# Altium footprint library alexsb.PCBLIB: 444 footprints (part 9 of 28)
Each footprint in its own frame and in the unit in brackets; x right, y up, seen from the top. Pads: shape width x height; smd on the part's side, far side on the other; paste and mask are expansions set on the pad; w line width, h text height; cw(c..) or ccw(c..) is an arc to the next point about the centre after c.
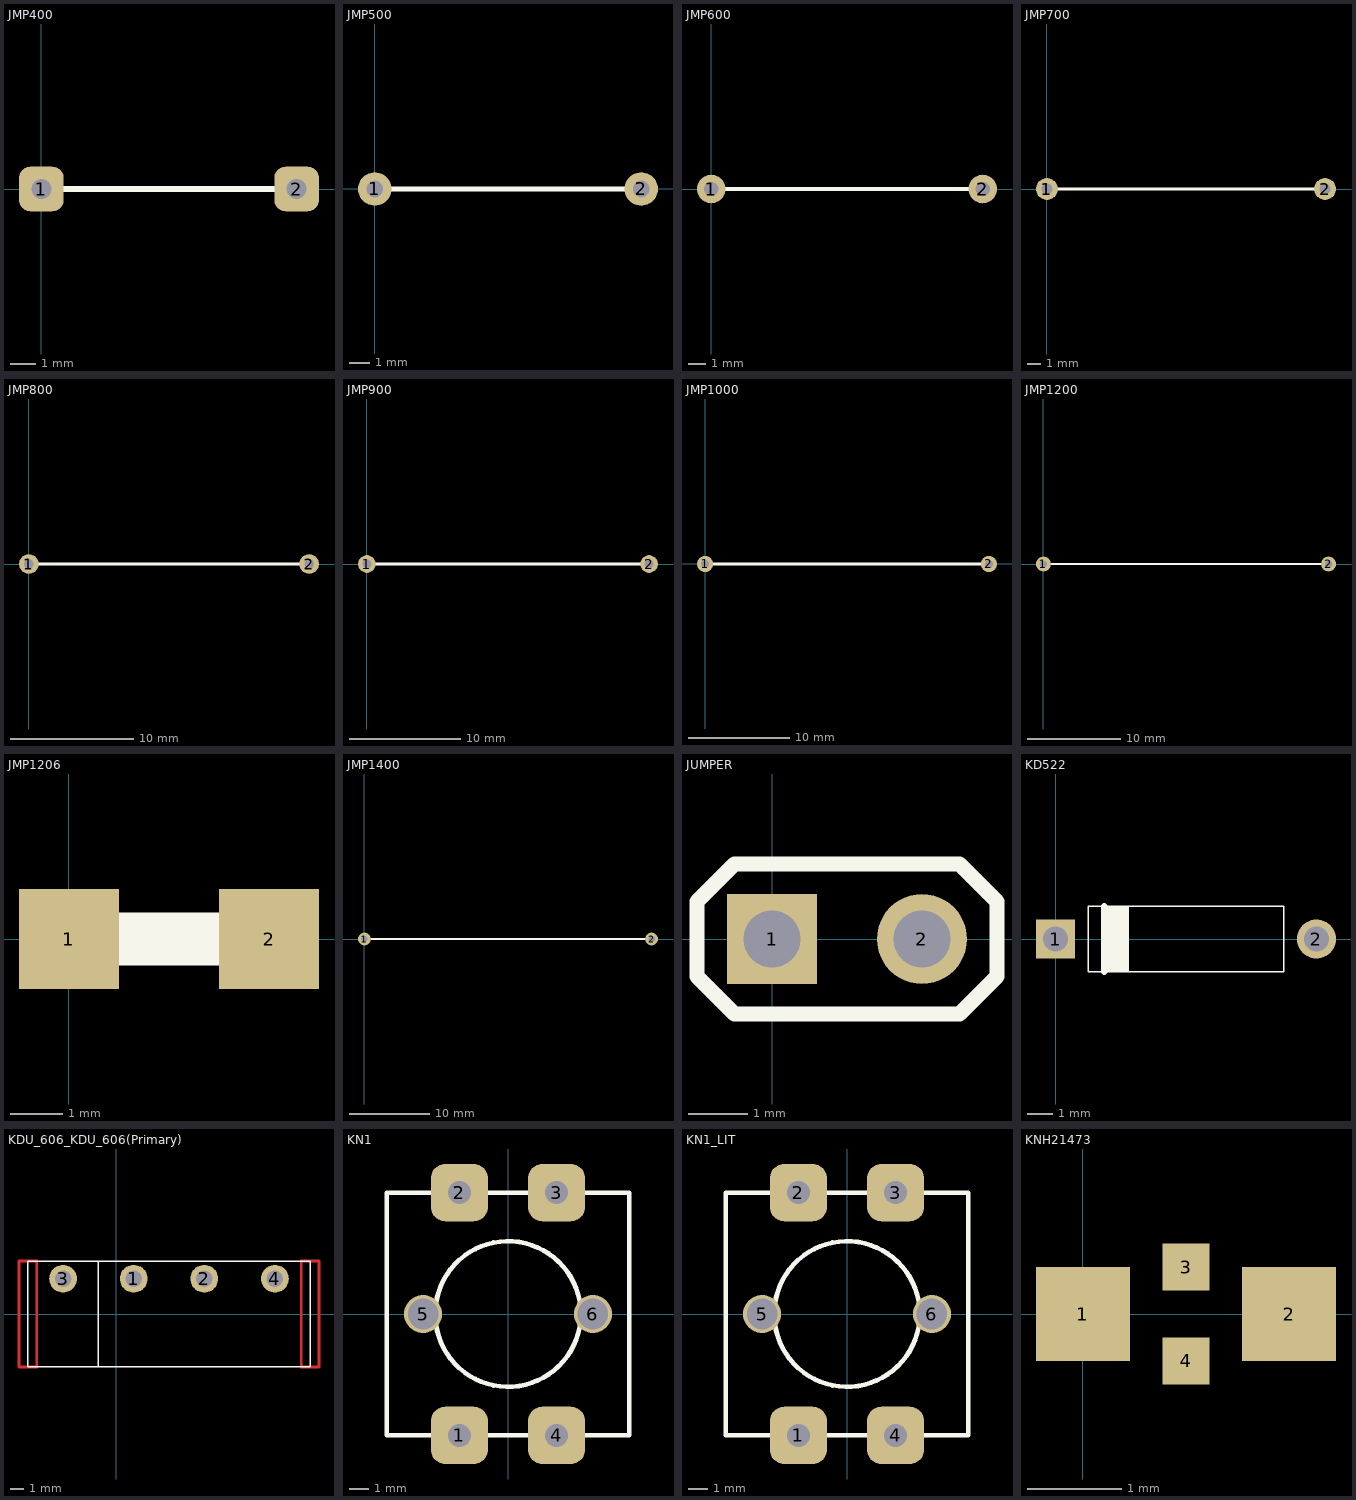
[diagram p8: the footprints below, top view; thin cyan lines are the x and y axes]

## JMP400 [mil]
pads (2):
  rrect50% 70x70 hole 31.5: 1(0,0) 2(400,0)
Top Overlay:
  lines w9.84: 0,0 400,0

## JMP500 [mm]
pads (2):
  round 1.6 hole 0.8: 1(0,0) 2(12.7,0)
Top Overlay:
  lines w0.25: 0,0 12.7,0

## JMP600 [mm]
pads (2):
  round 1.6 hole 0.8: 1(0,0) 2(15.24,0)
Top Overlay:
  lines w0.25: 0,0 15.24,0

## JMP700 [mm]
pads (2):
  round 1.6 hole 0.8: 1(0,0) 2(20.32,0)
Top Overlay:
  lines w0.25: 0,0 20.32,0

## JMP800 [mm]
pads (2):
  round 1.6 hole 0.8: 1(0,0) 2(22.86,0)
Top Overlay:
  lines w0.25: 0,0 22.86,0

## JMP900 [mm]
pads (2):
  round 1.6 hole 0.8: 1(0,0) 2(25.4,0)
Top Overlay:
  lines w0.25: 0,0 25.4,0

## JMP1000 [mm]
pads (2):
  round 1.6 hole 0.8: 1(0,0) 2(27.94,0)
Top Overlay:
  lines w0.25: 0,0 27.94,0

## JMP1200 [mm]
pads (2):
  round 1.6 hole 0.8: 1(0,0) 2(30.48,0)
Top Overlay:
  lines w0.25: 0,0 30.48,0

## JMP1206 [mm]
pads (2):
  rect 1.9x1.9 smd: 1(0,0) 2(3.81,0)
Top Overlay:
  lines w1: 0,0 2.54,0 3.81,0

## JMP1400 [mm]
pads (2):
  round 1.6 hole 0.8: 1(0,0) 2(35.56,0)
Top Overlay:
  lines w0.25: 0,0 35.56,0

## JUMPER [mil]
pads (2):
  rect 60x60 hole 38: 1(0,0)
  round 60 hole 38: 2(100,0)
Top Overlay:
  lines w10: -50,-25 -25,-50 125,-50 150,-25 150,25 125,50 -25,50 -50,25 -50,-25

## KD522 [mil]
pads (2):
  rect 60x60 hole 38: 1(0,0)
  round 60 hole 38: 2(400,0)
Top Overlay:
  region: 75,50 75,-50 112.5,-50 112.5,50
  lines w1.97: 50,-50 50,50 350,50 350,-50 50,-50
  lines w10: 75,-50 75,50

## KDU_606_KDU_606(Primary) [mm]
pads (4):
  round 2 hole 1.2: 1(1.27,2.54) 2(6.35,2.54) 3(-3.81,2.54) 4(11.43,2.54)
Top Layer:
  lines w0.2: -6.985,-3.81 -5.715,-3.81 -5.715,3.81 -6.985,3.81 -6.985,-3.81 ; 13.335,-3.81 13.335,3.81 14.605,3.81 14.605,-3.81 13.335,-3.81
Top Overlay:
  lines w0.1: -1.27,-3.81 -1.27,3.81 ; -6.35,-3.81 -6.35,3.81 13.97,3.81 13.97,-2.54 13.97,-3.81 -6.35,-3.81

## KN1 [mm]
pads (6):
  rrect50% 3x3 hole 1.2: 1(-2.54,-6.35) 2(-2.54,6.35) 3(2.54,6.35) 4(2.54,-6.35)
  round 2 hole 1.6: 5(-4.445,0) 6(4.445,0)
Top Overlay:
  circle w0.25: c0,0 r3.81
  lines w0.25: -6.35,-6.35 -6.35,6.35 6.35,6.35 6.35,-6.35 -6.35,-6.35

## KN1_LIT [mm]
pads (6):
  rrect50% 3x3 hole 1.2: 1(-2.54,-6.35) 2(-2.54,6.35) 3(2.54,6.35) 4(2.54,-6.35)
  round 2 hole 1.6: 5(-4.445,0) 6(4.445,0)
Top Overlay:
  circle w0.25: c0,0 r3.81
  lines w0.25: -6.35,-6.35 6.35,-6.35 6.35,6.35 -6.35,6.35 -6.35,-6.35

## KNH21473 [mm]
pads (4):
  rect 1x1 smd: 1(0,0) 2(2.2,0)
  rect 0.5x0.5 smd: 3(1.1,0.5) 4(1.1,-0.5)